# EAGLE library part TC2030-CTX-NL (library TC2030-CTX-NL)
6-Pin "No Legs" Cable with 10-pin micro-connector for Cortex processors Source: Datasheet <http://www.tag-connect.com/Materials/TC2030-CTX.pdf>
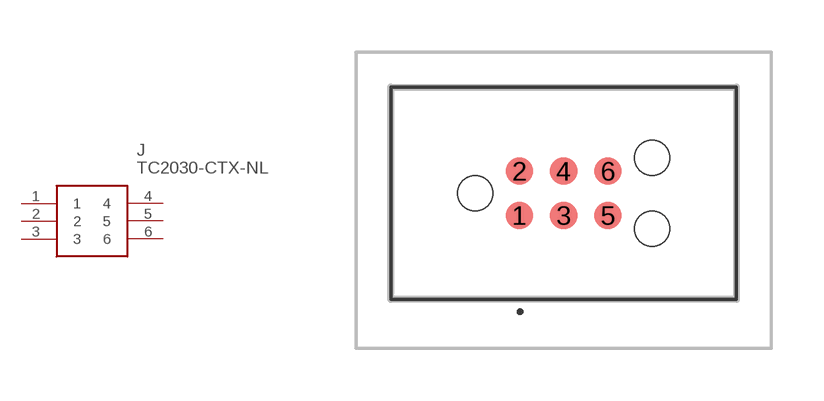
[diagram p0: symbol with the pads of TC2030MCPNL10; footprint TC2030MCPNL10]

Designator prefix J

## TC2030-CTX-NL (Description: 6-Pin "No Legs" Cable with 10-pin micro-connector for Cortex processors; Height: 18mm; Manufacturer_Name: Tag Connect; Manufacturer_Part_Number: TC2030-CTX-NL)  [TC2030MCPNL10]
1  1
2  2
3  3
4  4
5  5
6  6

## Footprint TC2030MCPNL10 (pad centres in mm)
TC2030-MCP-NL-10
smd 0.787 x 0.787: 1 -1.27,-0.434; 2 -1.27,0.836; 3 0,-0.434; 4 0,0.836; 5 1.27,-0.434; 6 1.27,0.836
hole 0.991 at -2.54,0.201
hole 0.991 at 2.54,1.217
hole 0.991 at 2.54,-0.815